# Altium footprint library WH.PcbLib: 41 footprints (part 2 of 3)
Each footprint in its own frame and in the unit in brackets; x right, y up, seen from the top. Pads: shape width x height; smd on the part's side, far side on the other; paste and mask are expansions set on the pad; w line width, h text height; cw(c..) or ccw(c..) is an arc to the next point about the centre after c.
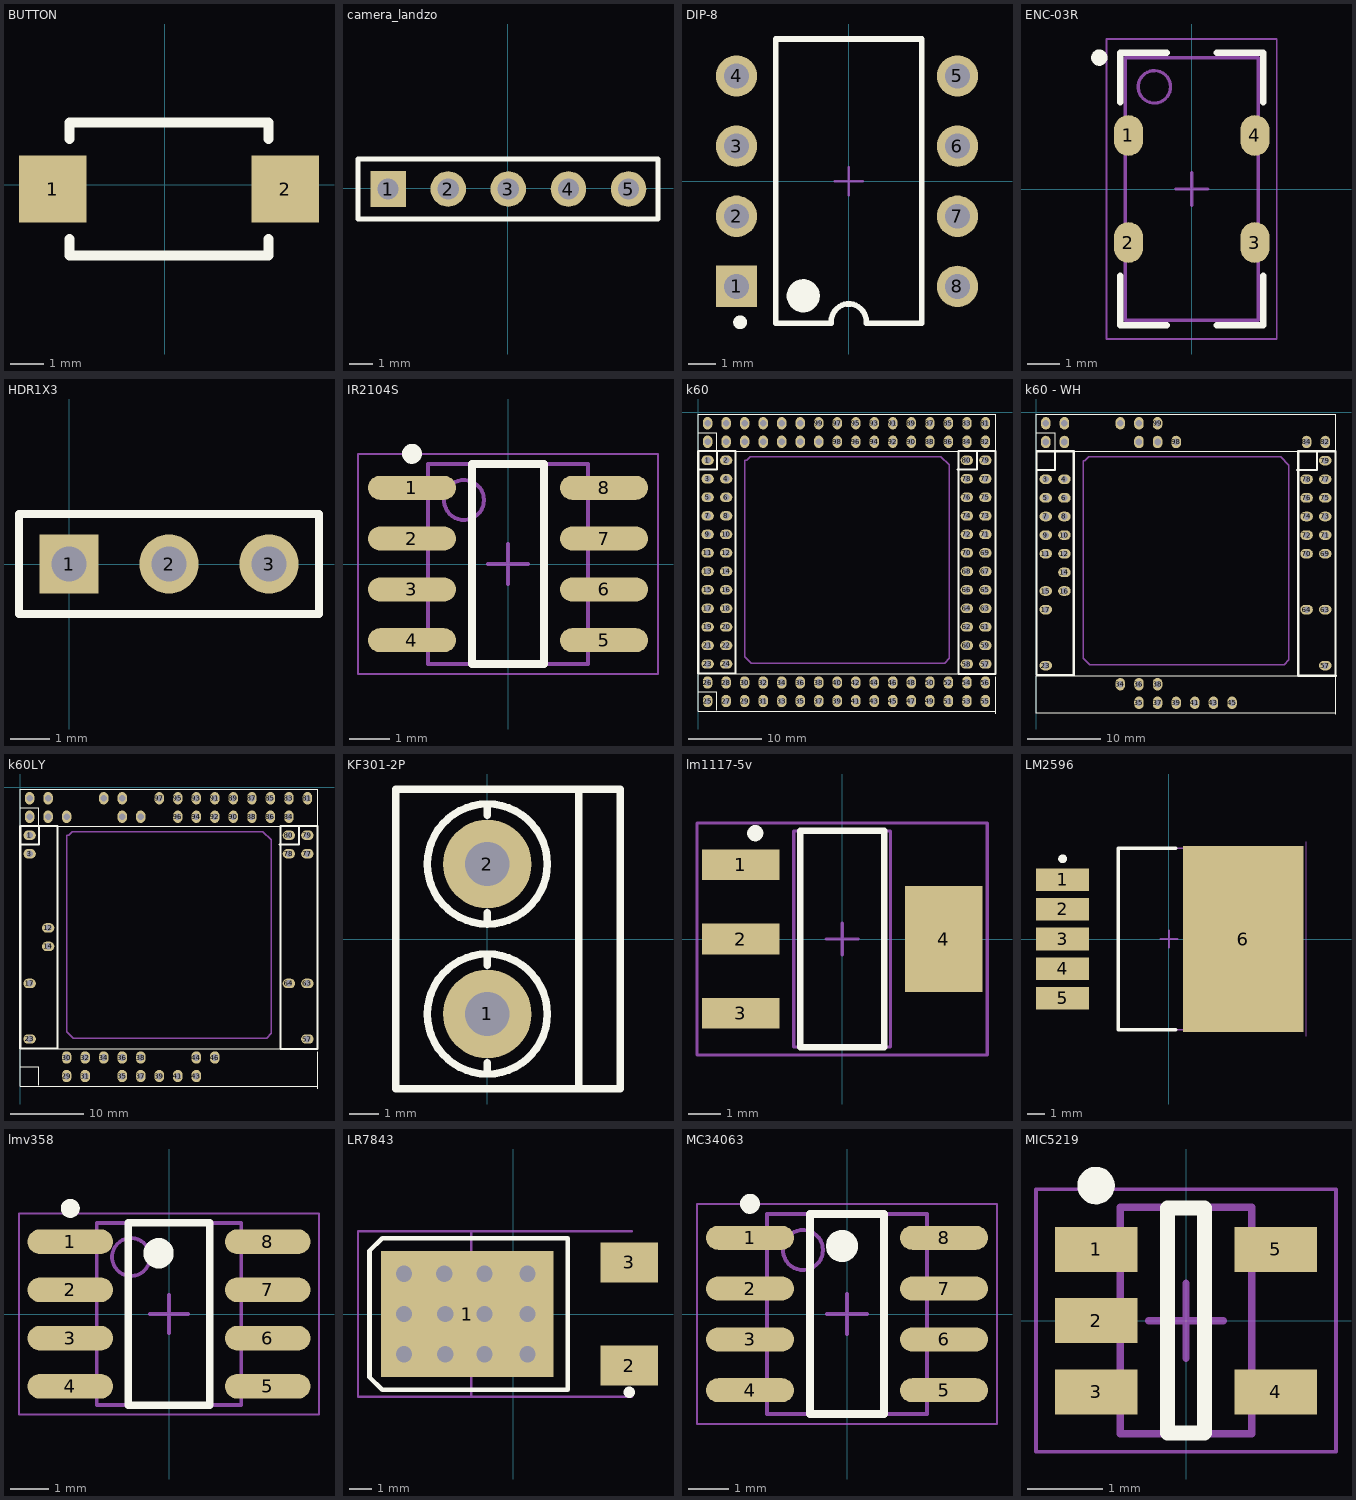
[diagram p1: the footprints below, top view; thin cyan lines are the x and y axes]

## BUTTON [mil]
pads (2):
  rect 80x80 smd: 1(-132.8,-5) 2(142.8,-5)
Top Overlay:
  lines w12: -113.11,-64.06 -113.11,-83.74 123.11,-83.74 123.11,-64.06 ; -113.11,54.06 -113.11,73.74 123.11,73.74 123.11,54.06

## camera_landzo [mm]
pads (5):
  rect 1.5x1.5 hole 0.9: 1(-5.055,-0.025)
  round 1.5 hole 0.9: 2(-2.515,-0.025) 3(0.025,-0.025) 4(2.565,-0.025) 5(5.105,-0.025)
Top Overlay:
  lines w0.2: -6.325,-1.295 -6.325,1.245 6.35,1.245 6.35,-1.295 -6.325,-1.295

## DIP-8 [mm]
pads (8):
  rect 1.5x1.5 hole 0.9: 1(-4.064,-3.81)
  round 1.5 hole 0.9: 2(-4.064,-1.27) 3(-4.064,1.27) 4(-4.064,3.81) 5(3.937,3.81) 6(3.937,1.27) 7(3.937,-1.27) 8(3.937,-3.81)
Top Overlay:
  circle w0.6: c-1.65,-4.15 r0.3
  circle w0.25: c-3.937,-5.11 r0.125
  lines w0.2: -0.635,-5.15 -2.65,-5.15 -2.65,5.15 2.65,5.15 2.65,-5.15 0.635,-5.15 ; -0.635,-5.08 cw(c0,-5.08) 0.635,-5.08
Mechanical 15:
  lines w0.1: -0.5,0 0.5,0 ; 0,-0.5 0,0.5

## ENC-03R [mm] "QFN, 4-Leads, Body 8.00x4.00mm, Pitch 3.30mm/0.50mm, Thermal Pad 4.50x0.00mm, IPC Medium Density"
height 2
pads (4):
  oval 0.9x1.25 smd: 1(-1.95,1.65) 2(-1.95,-1.65) 3(1.95,-1.65) 4(1.95,1.65)
Top Overlay:
  circle w0.25: c-2.85,4.05 r0.125
  lines w0.2: -2.2,-2.675 -2.2,-4.2 -0.775,-4.2 ; -2.2,2.675 -2.2,4.2 -0.775,4.2 ; 0.775,-4.2 2.2,-4.2 2.2,-2.675 ; 0.775,4.2 2.2,4.2 2.2,2.675
Mechanical 13:
  circle w0.1: c-1.15,3.15 r0.5
  lines w0.1: -2.05,-4.05 2.05,-4.05 2.05,4.05 -2.05,4.05 -2.05,-4.05
Mechanical 15:
  lines w0.05: -2.625,-4.625 2.625,-4.625 2.625,4.625 -2.625,4.625 -2.625,-4.625
  lines w0.1: -0.5,0 0.5,0 ; 0,-0.5 0,0.5
3D body: height 2, standoff 0.01, extent -2.05,-4.05 2.05,4.05

## HDR1X3 [mm] "Connector; Header; 3 Position"
pads (3):
  rect 1.5x1.5 hole 0.9: 1(0,0)
  round 1.5 hole 0.9: 2(2.54,0) 3(5.08,0)
Top Overlay:
  lines w0.2: -1.27,-1.27 6.35,-1.27 6.35,1.27 -1.27,1.27 -1.27,-1.27

## IR2104S [mm]
height 1.55
pads (8):
  oval 2.2x0.6 smd: 1(-2.4,1.905) 2(-2.4,0.635) 3(-2.4,-0.635) 4(-2.4,-1.905) 5(2.4,-1.905) 6(2.4,-0.635) 7(2.4,0.635) 8(2.4,1.905)
Top Overlay:
  circle w0.25: c-2.4,2.755 r0.125
  lines w0.2: -0.9,-2.5 0.9,-2.5 0.9,2.5 -0.9,2.5 -0.9,-2.5
Mechanical 13:
  circle w0.1: c-1.1,1.6 r0.5
  lines w0.1: -2,-2.5 2,-2.5 2,2.5 -2,2.5 -2,-2.5
Mechanical 15:
  lines w0.05: -3.75,-2.75 3.75,-2.75 3.75,2.75 -3.75,2.75 -3.75,-2.75
  lines w0.1: -0.5,0 0.5,0 ; 0,-0.5 0,0.5
3D body: height 1.55, standoff 0.22, extent -2,-2.5 2,2.5

## k60 [mm]
pads (112):
  oval 1.7x1.3 / inner round 1.524 / far side round 1.524 hole 0.9: 1(1.27,-6.604) 2(3.81,-6.604) 3(1.27,-9.144) 4(3.81,-9.144) 5(1.27,-11.684) 6(3.81,-11.684) 7(1.27,-14.224) 8(3.81,-14.224) 9(1.27,-16.764) 10(3.81,-16.764) 11(1.27,-19.304) 12(3.81,-19.304) 13(1.27,-21.844) 14(3.81,-21.844) 15(1.27,-24.384) 16(3.81,-24.384) 17(1.27,-26.924) 18(3.81,-26.924) 19(1.27,-29.464) 20(3.81,-29.464) 21(1.27,-32.004) 22(3.81,-32.004) 23(1.27,-34.544) 24(3.81,-34.544) 57(39.37,-34.544) 58(36.83,-34.544) 59(39.37,-32.004) 60(36.83,-32.004) 61(39.37,-29.464) 62(36.83,-29.464) 63(39.37,-26.924) 64(36.83,-26.924) 65(39.37,-24.384) 66(36.83,-24.384) 67(39.37,-21.844) 68(36.83,-21.844) 69(39.37,-19.304) 70(36.83,-19.304) 71(39.37,-16.764) 72(36.83,-16.764) 73(39.37,-14.224) 74(36.83,-14.224) 75(39.37,-11.684) 76(36.83,-11.684) 77(39.37,-9.144) 78(36.83,-9.144) 79(39.37,-6.604) 80(36.83,-6.604)
  oval 1.3x1.7 / inner round 1.524 / far side round 1.524 hole 0.9: 25(1.27,-39.624) 26(1.27,-37.084) 27(3.81,-39.624) 28(3.81,-37.084) 29(6.35,-39.624) 30(6.35,-37.084) 31(8.89,-39.624) 32(8.89,-37.084) 33(11.43,-39.624) 34(11.43,-37.084) 35(13.97,-39.624) 36(13.97,-37.084) 37(16.51,-39.624) 38(16.51,-37.084) 39(19.05,-39.624) 40(19.05,-37.084) 41(21.59,-39.624) 42(21.59,-37.084) 43(24.13,-39.624) 44(24.13,-37.084) 45(26.67,-39.624) 46(26.67,-37.084) 47(29.21,-39.624) 48(29.21,-37.084) 49(31.75,-39.624) 50(31.75,-37.084) 51(34.29,-39.624) 52(34.29,-37.084) 53(36.83,-39.624) 54(36.83,-37.084) 55(39.37,-39.624) 56(39.37,-37.084) 81(39.37,-1.524) 82(39.37,-4.064) 83(36.83,-1.524) 84(36.83,-4.064) 85(34.29,-1.524) 86(34.29,-4.064) 87(31.75,-1.524) 88(31.75,-4.064) 89(29.21,-1.524) 90(29.21,-4.064) 91(26.67,-1.524) 92(26.67,-4.064) 93(24.13,-1.524) 94(24.13,-4.064) 95(21.59,-1.524) 96(21.59,-4.064) 97(19.05,-1.524) 98(19.05,-4.064) 99(16.51,-1.524) 100(16.51,-4.064) 101(13.97,-1.524) 102(13.97,-4.064) 103(11.43,-1.524) 104(11.43,-4.064) 105(8.89,-1.524) 106(8.89,-4.064) 107(6.35,-1.524) 108(6.35,-4.064) 109(3.81,-1.524) 110(3.81,-4.064) 111(1.27,-1.524) 112(1.27,-4.064)
Top Overlay:
  lines w0.15: -0.042,-41.052 -0.042,-35.972 ; -0.003,-41.001 40.764,-41.001 ; 0,-38.354 2.54,-38.354 2.54,-40.894 ; 0,-35.91 40.767,-35.91 ; 0,-2.794 2.54,-2.794 2.54,-5.334 ; 40.767,-36.785 40.818,-36.785 ; 40.767,-36.426 40.818,-36.426 ; 40.818,-41.402 40.818,-36.322 ; 0,-5.334 40.767,-5.334 40.818,-5.334 40.818,-0.254 40.767,-0.254 0,-0.254 0,-5.334
  lines w0.305: 0,-35.845 5.08,-35.845 ; 0,-35.814 0,-5.334 5.08,-5.334 5.08,-35.814 ; 0,-7.874 2.54,-7.874 2.54,-5.334 ; 35.56,-7.874 38.1,-7.874 ; 35.687,-35.918 40.767,-35.918 ; 35.687,-35.814 35.687,-5.334 40.767,-5.334 40.767,-35.814 ; 38.227,-7.874 38.227,-5.334
Mechanical 15:
  lines w0.2: 6.35,-6.604 6.604,-6.604 ; 6.35,-6.604 6.604,-6.604 ; 6.35,-6.604 6.35,-33.528 7.239,-34.417 33.782,-34.417 34.417,-33.782 34.417,-7.239 33.274,-6.096 7.112,-6.096 6.604,-6.604

## k60 - WH [mm]
pads (50):
  oval 1.7x1.3 / inner round 1.524 / far side round 1.524 hole 0.9: 3(1.27,-9.144) 4(3.81,-9.144) 5(1.27,-11.684) 6(3.81,-11.684) 7(1.27,-14.224) 8(3.81,-14.224) 9(1.27,-16.764) 10(3.81,-16.764) 11(1.27,-19.304) 12(3.81,-19.304) 14(3.81,-21.844) 15(1.27,-24.384) 16(3.81,-24.384) 17(1.27,-26.924) 23(1.27,-34.544) 57(39.37,-34.544) 63(39.37,-26.924) 64(36.83,-26.924) 69(39.37,-19.304) 70(36.83,-19.304) 71(39.37,-16.764) 72(36.83,-16.764) 73(39.37,-14.224) 74(36.83,-14.224) 75(39.37,-11.684) 76(36.83,-11.684) 77(39.37,-9.144) 78(36.83,-9.144) 79(39.37,-6.604)
  oval 1.3x1.7 / inner round 1.524 / far side round 1.524 hole 0.9: 34(11.43,-37.084) 35(13.97,-39.624) 36(13.97,-37.084) 37(16.51,-39.624) 38(16.51,-37.084) 39(19.05,-39.624) 41(21.59,-39.624) 43(24.13,-39.624) 45(26.67,-39.624) 82(39.37,-4.064) 84(36.83,-4.064) 98(19.05,-4.064) 99(16.51,-1.524) 100(16.51,-4.064) 101(13.97,-1.524) 102(13.97,-4.064) 103(11.43,-1.524) 109(3.81,-1.524) 110(3.81,-4.064) 111(1.27,-1.524) 112(1.27,-4.064)
Top Overlay:
  lines w0.15: -0.042,-41.052 -0.042,-35.972 ; -0.003,-41.001 40.764,-41.001 ; 0,-35.91 40.767,-35.91 ; 0,-2.794 2.54,-2.794 2.54,-5.334 ; 40.767,-36.785 40.818,-36.785 ; 40.767,-36.426 40.818,-36.426 ; 40.818,-41.148 40.818,-35.918 ; 0,-5.334 0,-0.254 40.767,-0.254 40.818,-0.254 40.818,-5.334 40.767,-5.334 0,-5.334
  lines w0.305: 0,-35.845 5.08,-35.845 ; 0,-35.814 0,-5.334 5.08,-5.334 5.08,-35.814 ; 0,-7.874 2.54,-7.874 2.54,-5.334 ; 35.56,-7.874 38.1,-7.874 ; 35.687,-35.918 40.818,-35.918 ; 35.687,-35.814 35.687,-5.334 40.767,-5.334 40.767,-35.814 ; 38.227,-7.874 38.227,-5.334
Mechanical 15:
  lines w0.2: 6.35,-6.604 6.35,-33.528 7.239,-34.417 33.782,-34.417 34.417,-33.782 34.417,-7.239 33.274,-6.096 7.112,-6.096 6.604,-6.604 ; 6.35,-6.604 6.604,-6.604 ; 6.35,-6.604 6.604,-6.604

## k60LY [mm]
pads (52):
  oval 1.7x1.3 / inner round 1.524 / far side round 1.524 hole 0.9: 1(1.27,-6.604) 3(1.27,-9.144) 12(3.81,-19.304) 14(3.81,-21.844) 17(1.27,-26.924) 23(1.27,-34.544) 57(39.37,-34.544) 63(39.37,-26.924) 64(36.83,-26.924) 77(39.37,-9.144) 78(36.83,-9.144) 79(39.37,-6.604) 80(36.83,-6.604)
  oval 1.3x1.7 / inner round 1.524 / far side round 1.524 hole 0.9: 29(6.35,-39.624) 30(6.35,-37.084) 31(8.89,-39.624) 32(8.89,-37.084) 34(11.43,-37.084) 35(13.97,-39.624) 36(13.97,-37.084) 37(16.51,-39.624) 38(16.51,-37.084) 39(19.05,-39.624) 41(21.59,-39.624) 43(24.13,-39.624) 44(24.13,-37.084) 46(26.67,-37.084) 81(39.37,-1.524) 83(36.83,-1.524) 84(36.83,-4.064) 85(34.29,-1.524) 86(34.29,-4.064) 87(31.75,-1.524) 88(31.75,-4.064) 89(29.21,-1.524) 90(29.21,-4.064) 91(26.67,-1.524) 92(26.67,-4.064) 93(24.13,-1.524) 94(24.13,-4.064) 95(21.59,-1.524) 96(21.59,-4.064) 97(19.05,-1.524) 100(16.51,-4.064) 101(13.97,-1.524) 102(13.97,-4.064) 103(11.43,-1.524) 108(6.35,-4.064) 109(3.81,-1.524) 110(3.81,-4.064) 111(1.27,-1.524) 112(1.27,-4.064)
Top Overlay:
  lines w0.15: -0.042,-41.052 -0.042,-35.972 ; -0.003,-41.001 40.764,-41.001 ; 0,-38.354 2.54,-38.354 2.54,-40.894 ; 0,-35.91 40.767,-35.91 ; 0,-2.794 2.54,-2.794 2.54,-5.334 ; 40.767,-36.785 40.818,-36.785 ; 40.767,-36.426 40.818,-36.426 ; 40.818,-41.402 40.818,-36.322 ; 0,-5.334 40.767,-5.334 40.818,-5.334 40.818,-0.254 40.767,-0.254 0,-0.254 0,-5.334
  lines w0.305: 0,-35.845 5.08,-35.845 ; 0,-35.814 0,-5.334 5.08,-5.334 5.08,-35.814 ; 0,-7.874 2.54,-7.874 2.54,-5.334 ; 35.56,-7.874 38.1,-7.874 ; 35.687,-35.918 40.767,-35.918 ; 35.687,-35.814 35.687,-5.334 40.767,-5.334 40.767,-35.814 ; 38.227,-7.874 38.227,-5.334
Mechanical 15:
  lines w0.2: 6.35,-6.604 6.604,-6.604 ; 6.35,-6.604 6.604,-6.604 ; 6.35,-6.604 6.35,-33.528 7.239,-34.417 33.782,-34.417 34.417,-33.782 34.417,-7.239 33.274,-6.096 7.112,-6.096 6.604,-6.604

## KF301-2P [mm]
pads (2):
  round 3 hole 1.5: 1(0,-2.54) 2(0,2.54)
Top Overlay:
  circle w0.254: c0,2.54 r2.032
  circle w0.254: c0,-2.54 r2.032
  lines w0.254: 0,-4.572 0,-4.191 ; 0,-0.889 0,-0.508 ; 0,0.508 0,0.889 ; 0,4.191 0,4.572 ; 3.1,-5.08 3.1,5.08 ; -3.1,-5.08 -3.1,5.08 4.5,5.08 4.5,-5.08 -3.1,-5.08

## lm1117-5v [mm] "SOT223, 4-Leads, Body 6.7x7.3mm (max), Pitch 2.30mm, IPC Medium Density"
height 1.8
pads (4):
  rect 2.4x0.95 smd: 1(-3.15,2.3) 2(-3.15,0) 3(-3.15,-2.3)
  rect 2.4x3.3 smd: 4(3.15,0)
Top Overlay:
  circle w0.25: c-2.695,3.28 r0.125
  lines w0.2: -1.3,-3.35 1.3,-3.35 1.3,3.35 -1.3,3.35 -1.3,-3.35
Mechanical 13:
  lines w0.1: -1.5,-3.35 1.5,-3.35 1.5,3.35 -1.5,3.35 -1.5,-3.35
Mechanical 15:
  lines w0.1: -0.5,0 0.5,0 ; 0,-0.5 0,0.5 ; -4.5,-3.6 4.5,-3.6 4.5,3.6 -4.5,3.6 -4.5,-3.6
3D body: height 1.8, standoff 0.02, extent -1.5,-3.35 1.5,3.35

## LM2596 [mm] "D2-PAK, 6-Pads, Body 7.55x8.56mm (max), IPC Medium Density"
height 4.65
pads (6):
  rect 3.05x1.3 smd: 1(-6.1,3.4) 2(-6.1,1.7) 3(-6.1,0) 4(-6.1,-1.7) 5(-6.1,-3.4)
  rect 6.9x10.65 smd: 6(4.25,0)
Top Overlay:
  circle w0.25: c-6.1,4.6 r0.125
  lines w0.2: 0.4,-5.2 -2.9,-5.2 -2.9,5.2 0.4,5.2
Mechanical 13:
  lines w0.1: -2.9,-5.2 5.99,-5.2 5.99,5.2 -2.9,5.2 -2.9,-5.2
Mechanical 15:
  lines w0.05: 7.875,-5.575 7.875,5.575
  lines w0.1: -0.5,0 0.5,0 ; 0,-0.5 0,0.5

## lmv358 [mm] "SOIC, 8-Leads, Body 4.89x3.90mm, Pitch 1.27mm, IPC Medium Density"
height 1.62
pads (8):
  oval 2.25x0.65 smd: 1(-2.6,1.905) 2(-2.6,0.635) 3(-2.6,-0.635) 4(-2.6,-1.905) 5(2.6,-1.905) 6(2.6,-0.635) 7(2.6,0.635) 8(2.6,1.905)
Top Overlay:
  circle w0.25: c-2.6,2.78 r0.125
  circle w0.4: c-0.275,1.6 r0.2
  lines w0.2: -1.075,-2.4 -1.075,2.4 1.075,2.4 1.075,-2.4 -1.075,-2.4
Mechanical 13:
  circle w0.1: c-1,1.5 r0.5
  lines w0.1: -1.9,-2.4 -1.9,2.4 1.9,2.4 1.9,-2.4 -1.9,-2.4
Mechanical 15:
  lines w0.05: -3.95,-2.65 -3.95,2.65 3.95,2.65 3.95,-2.65 -3.95,-2.65
  lines w0.1: -0.5,0 0.5,0 ; 0,-0.5 0,0.5
3D body: height 1.62, standoff 0.18, extent -1.9,-2.4 1.9,2.4

## LR7843 [mm]
pads (3):
  rect 7.6x5.55 smd: 1(-2.032,0)
  rect 2.54x1.778 smd: 2(5.124,-2.28) 3(5.124,2.28)
via -4.826,1.778 diameter 1.27 hole 0.711
via -4.826,0 diameter 1.27 hole 0.711
via -4.826,-1.778 diameter 1.27 hole 0.711
via -3.006,-1.778 diameter 1.27 hole 0.711
via -3.006,0 diameter 1.27 hole 0.711
via -3.048,1.778 diameter 1.27 hole 0.711
via -1.27,1.778 diameter 1.27 hole 0.711
via -1.27,0 diameter 1.27 hole 0.711
via -1.27,-1.778 diameter 1.27 hole 0.711
via 0.635,-1.778 diameter 1.27 hole 0.711
via 0.635,0 diameter 1.27 hole 0.711
via 0.635,1.778 diameter 1.27 hole 0.711
Top Overlay:
  circle w0.25: c5.124,-3.455 r0.125
  lines w0.2: -6.35,-2.794 -6.35,2.794 -5.794,3.35 2.413,3.35 2.413,-3.35 -5.794,-3.35 -6.35,-2.794
Mechanical 15:
  lines w0.1: -1.855,-3.65 -1.855,3.65 ; -0.326,0 0.674,0 ; 0.174,-0.5 0.174,0.5 ; 5.229,-3.65 -6.858,-3.65 -6.858,3.65 5.229,3.65

## MC34063 [mm] "SOIC, 8-Leads, Body 4.90x3.90mm, Pitch 1.27mm, IPC Medium Density"
height 1.5
pads (8):
  oval 2.2x0.6 smd: 1(-2.425,1.905) 2(-2.425,0.635) 3(-2.425,-0.635) 4(-2.425,-1.905) 5(2.425,-1.905) 6(2.425,-0.635) 7(2.425,0.635) 8(2.425,1.905)
Top Overlay:
  circle w0.4: c-0.125,1.7 r0.2
  circle w0.25: c-2.425,2.755 r0.125
  lines w0.2: -0.925,-2.5 0.925,-2.5 0.925,2.5 -0.925,2.5 -0.925,-2.5
Mechanical 13:
  circle w0.1: c-1.1,1.6 r0.5
  lines w0.1: -2,-2.5 2,-2.5 2,2.5 -2,2.5 -2,-2.5
Mechanical 15:
  lines w0.05: -3.75,-2.75 3.75,-2.75 3.75,2.75 -3.75,2.75 -3.75,-2.75
  lines w0.1: -0.5,0 0.5,0 ; 0,-0.5 0,0.5
3D body: height 1.5, standoff 0.2, extent -2,-2.5 2,2.5

## MIC5219 [mm] "SOT23, 5-Leads, Body 2.91x2.80mm, Pitch 0.95mm, IPC Medium Density"
height 1.15
pads (5):
  rect 1.1x0.6 smd: 1(-1.2,0.95) 2(-1.2,0) 3(-1.2,-0.95) 4(1.2,-0.95) 5(1.2,0.95)
Top Overlay:
  circle w0.25: c-1.2,1.8 r0.125
  lines w0.2: -0.25,-1.5 -0.25,1.5 0.25,1.5 0.25,-1.5 -0.25,-1.5
Mechanical 13:
  lines w0.1: -0.875,-1.51 0.875,-1.51 0.875,1.51 -0.875,1.51 -0.875,-1.51
Mechanical 15:
  lines w0.05: -2,-1.75 2,-1.75 2,1.75 -2,1.75 -2,-1.75
  lines w0.1: -0.5,0 0.5,0 ; 0,-0.5 0,0.5
3D body: height 1.15, standoff 0.08, extent -0.875,-1.51 0.875,1.51